# EAGLE library part 6N137 (library jhbruhn-ic)
MOTOROLA OPTO COUPLER
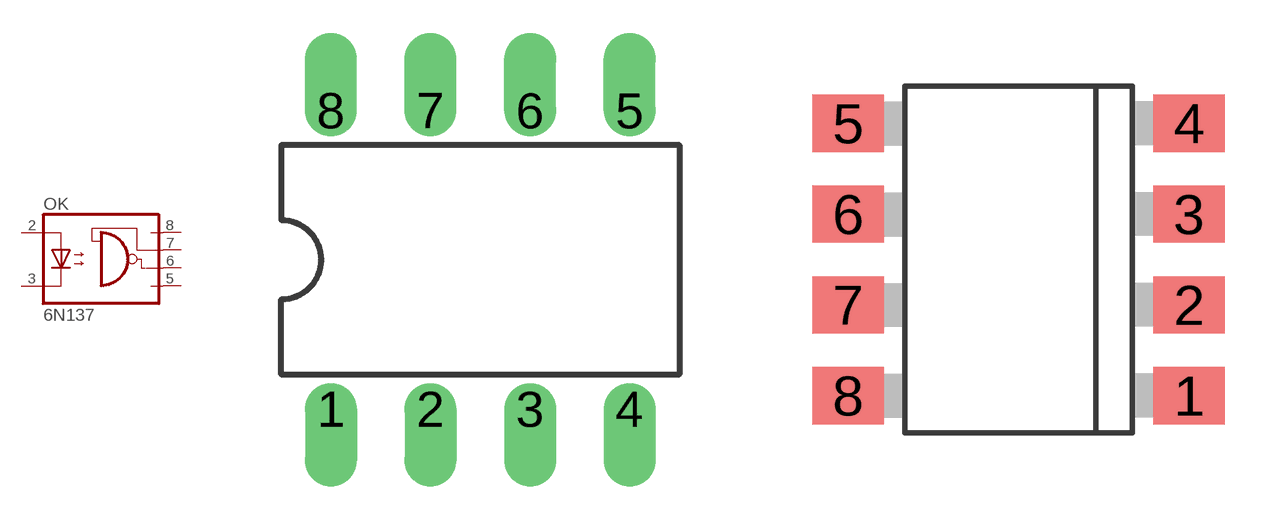
[diagram p3: symbol with the pads of DIL08; footprints DIL08, DIL8-SMD]

Designator prefix OK

## 6N137DIP  [DIL08]
2  A  pas
3  C  pas
5  GND  pas
6  VO  pas
7  VE  pas
8  VCC  pas

## 6N137SMT  [DIL8-SMD]
Pads as for DIL08

## Footprint DIL08 (pad centres in mm)
Dual In Line Package
drill 0.813 offset: 1 -3.81,-3.81; 2 -1.27,-3.81; 3 1.27,-3.81; 4 3.81,-3.81; 5 3.81,3.81; 6 1.27,3.81; 7 -1.27,3.81; 8 -3.81,3.81

## Footprint DIL8-SMD (pad centres in mm)
Dual In Line SMD 8 pol. Source: LITE-ON ELECTRONICS, LTV816.pdf
smd 2 x 1.6: 1 4.77,-3.81; 2 4.77,-1.27; 3 4.77,1.27; 4 4.77,3.81; 5 -4.77,3.81; 6 -4.77,1.27; 7 -4.77,-1.27; 8 -4.77,-3.81